# EAGLE library part USB2517I-JZX (library USB2517I-JZX)
USB Interface IC Ultra Fast USB 2.19 Source: Datasheet <https://componentsearchengine.com/Datasheets/2/USB2517I-JZX.pdf>
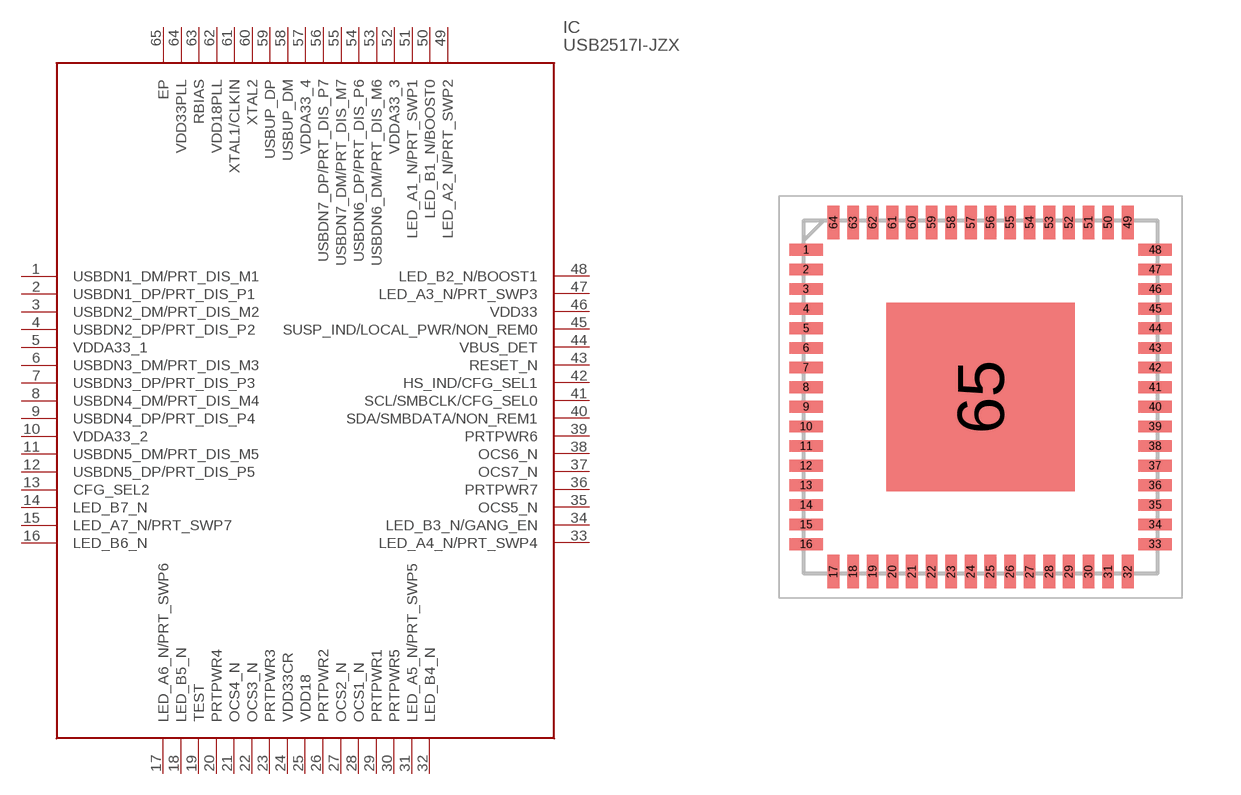
[diagram p0: symbol with the pads of QFN50P900X900X100-65N; footprint QFN50P900X900X100-65N]

Designator prefix IC

## USB2517I-JZX (Arrow_Part_Number: USB2517I-JZX; Arrow_Price-Stock: https://www.arrow.com/en/products/usb2517i-jzx/microchip-technology?utm_currency=USD&region=nac; Description: USB Interface IC Ultra Fast USB 2.19; Height: 1mm; Manufacturer_Name: Microchip; Manufacturer_Part_Number: USB2517I-JZX; Mouser_Part_Number: 886-USB2517I-JZX; Mouser_Price-Stock: https://www.mouser.co.uk/ProductDetail/Microchip-Technology/USB2517I-JZX?qs=pA5MXup5wxGVk3PXuCIZ0A%3D%3D)  [QFN50P900X900X100-65N]
1  USBDN1_DM/PRT_DIS_M1
2  USBDN1_DP/PRT_DIS_P1
3  USBDN2_DM/PRT_DIS_M2
4  USBDN2_DP/PRT_DIS_P2
5  VDDA33_1
6  USBDN3_DM/PRT_DIS_M3
7  USBDN3_DP/PRT_DIS_P3
8  USBDN4_DM/PRT_DIS_M4
9  USBDN4_DP/PRT_DIS_P4
10  VDDA33_2
11  USBDN5_DM/PRT_DIS_M5
12  USBDN5_DP/PRT_DIS_P5
13  CFG_SEL2
14  LED_B7_N
15  LED_A7_N/PRT_SWP7
16  LED_B6_N
17  LED_A6_N/PRT_SWP6
18  LED_B5_N
19  TEST
20  PRTPWR4
21  OCS4_N
22  OCS3_N
23  PRTPWR3
24  VDD33CR
25  VDD18
26  PRTPWR2
27  OCS2_N
28  OCS1_N
29  PRTPWR1
30  PRTPWR5
31  LED_A5_N/PRT_SWP5
32  LED_B4_N
33  LED_A4_N/PRT_SWP4
34  LED_B3_N/GANG_EN
35  OCS5_N
36  PRTPWR7
37  OCS7_N
38  OCS6_N
39  PRTPWR6
40  SDA/SMBDATA/NON_REM1
41  SCL/SMBCLK/CFG_SEL0
42  HS_IND/CFG_SEL1
43  RESET_N
44  VBUS_DET
45  SUSP_IND/LOCAL_PWR/NON_REM0
46  VDD33
47  LED_A3_N/PRT_SWP3
48  LED_B2_N/BOOST1
49  LED_A2_N/PRT_SWP2
50  LED_B1_N/BOOST0
51  LED_A1_N/PRT_SWP1
52  VDDA33_3
53  USBDN6_DM/PRT_DIS_M6
54  USBDN6_DP/PRT_DIS_P6
55  USBDN7_DM/PRT_DIS_M7
56  USBDN7_DP/PRT_DIS_P7
57  VDDA33_4
58  USBUP_DM
59  USBUP_DP
60  XTAL2
61  XTAL1/CLKIN
62  VDD18PLL
63  RBIAS
64  VDD33PLL
65  EP

## Footprint QFN50P900X900X100-65N (pad centres in mm)
USB2517I-JZX
smd 0.85 x 0.3: 1 -4.45,3.75; 2 -4.45,3.25; 3 -4.45,2.75; 4 -4.45,2.25; 5 -4.45,1.75; 6 -4.45,1.25; 7 -4.45,0.75; 8 -4.45,0.25; 9 -4.45,-0.25; 10 -4.45,-0.75; 11 -4.45,-1.25; 12 -4.45,-1.75; 13 -4.45,-2.25; 14 -4.45,-2.75; 15 -4.45,-3.25; 16 -4.45,-3.75; 33 4.45,-3.75; 34 4.45,-3.25; 35 4.45,-2.75; 36 4.45,-2.25; 37 4.45,-1.75; 38 4.45,-1.25; 39 4.45,-0.75; 40 4.45,-0.25; 41 4.45,0.25; 42 4.45,0.75; 43 4.45,1.25; 44 4.45,1.75; 45 4.45,2.25; 46 4.45,2.75; 47 4.45,3.25; 48 4.45,3.75
smd 0.3 x 0.85: 17 -3.75,-4.45; 18 -3.25,-4.45; 19 -2.75,-4.45; 20 -2.25,-4.45; 21 -1.75,-4.45; 22 -1.25,-4.45; 23 -0.75,-4.45; 24 -0.25,-4.45; 25 0.25,-4.45; 26 0.75,-4.45; 27 1.25,-4.45; 28 1.75,-4.45; 29 2.25,-4.45; 30 2.75,-4.45; 31 3.25,-4.45; 32 3.75,-4.45; 49 3.75,4.45; 50 3.25,4.45; 51 2.75,4.45; 52 2.25,4.45; 53 1.75,4.45; 54 1.25,4.45; 55 0.75,4.45; 56 0.25,4.45; 57 -0.25,4.45; 58 -0.75,4.45; 59 -1.25,4.45; 60 -1.75,4.45; 61 -2.25,4.45; 62 -2.75,4.45; 63 -3.25,4.45; 64 -3.75,4.45
smd 4.8 x 4.8: 65 0,0